# Altium schematic symbol library ethan.SchLib: 1 symbol
Pins are listed as number, name and electrical type; pins without a type are passive.

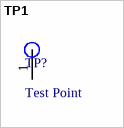
[diagram p0: symbol TP1]

## TP1
designator TP?, comment Test Point  (no BOM)
footprint TP1 (60 mil radius test point)
pins: 1